# EAGLE library part 62401421722 (library WR-WTB)
WR-WTB 2.00 mm Male Dual Row Horizontal Shrouded Header w. positive locking Material Properties Insulator Material PBT Insulator Flammability Rating UL94 V-0 Color White Contact Material Copper Alloy Contact Plating Tin Contact Type Stamped Certification UL Approval E323964 General Information Operating Temperature -25 °C up to +85 °C Compliance RoHS IR 3 A Working Voltage 250 V (AC) Withstanding Voltage 1000 V (AC) Contact Resistance 20 mΩ RISO 1000 MΩ Pitch 2 mm Gender Male Type Horizontal Packaging Properties Packaging Tube <https://www.we-online.com/components/media/o33359v209%20Family_WR-WTB_6240xx21722.jpg> Details see: www.we-online.com/en/components/products/WTB_2_00_MALE_DUAL_ROW_HORIZONTAL_SHROUDED_HEADER_W_POSITIVE_LOCKING_6240XX21722 <www.we-online.com/catalog/WTB_2_00_MALE_DUAL_ROW_HORIZONTAL_SHROUDED_HEADER_W_POSITIVE_LOCKING_6240XX21722/?utm_source=eagle_model&utm_medium=description_link&utm_campaign=eisos_eagle> Updated by Ella 2025-03-06 2025 (C) Würth Elektronik
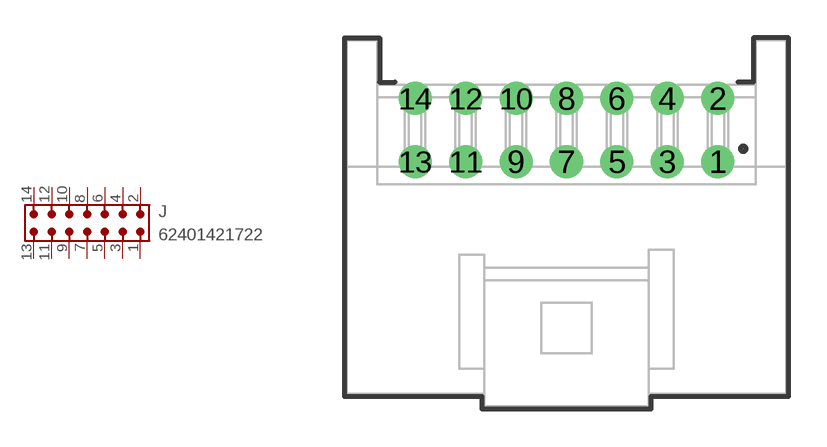
[diagram p14: symbol with the pads of 62401421722; footprint 62401421722]

Designator prefix J

## 62401421722 (CONTACT-RESISTANCE: 20mOhm; DATASHEET-URL: https://www.we-online.com/redexpert/spec/62401421722?ae; GENDER: Male; IR: 3A; L: 17.4mm; MOUNT: THT; PACKAGING: Tube; PART-NUMBER: 62401421722; PCB-CABLE-PANEL: PCB; PINS: 14; PITCH: 2mm; TYPE: Horizontal; VALUE: 62401421722; WORKING-VOLTAGE: 250V(AC))  [62401421722]
1  1  pas
2  2  pas
3  3  pas
4  4  pas
5  5  pas
6  6  pas
7  7  pas
8  8  pas
9  9  pas
10  10  pas
11  11  pas
12  12  pas
13  13  pas
14  14  pas

## Footprint 62401421722 (pad centres in mm)
WR-WTB 2.00 mm Male Dual Row Horizontal Shrouded Header w. positive locking, 14 pins
drill 0.8: 1 6,2.2; 2 6,4.7; 3 4,2.2; 4 4,4.7; 5 2,2.2; 6 2,4.7; 7 0,2.2; 8 0,4.7; 9 -2,2.2; 10 -2,4.7; 11 -4,2.2; 12 -4,4.7; 13 -6,2.2; 14 -6,4.7